# Altium integrated library NSC Interface.IntLib: 1288 symbols (part 41 of 45)
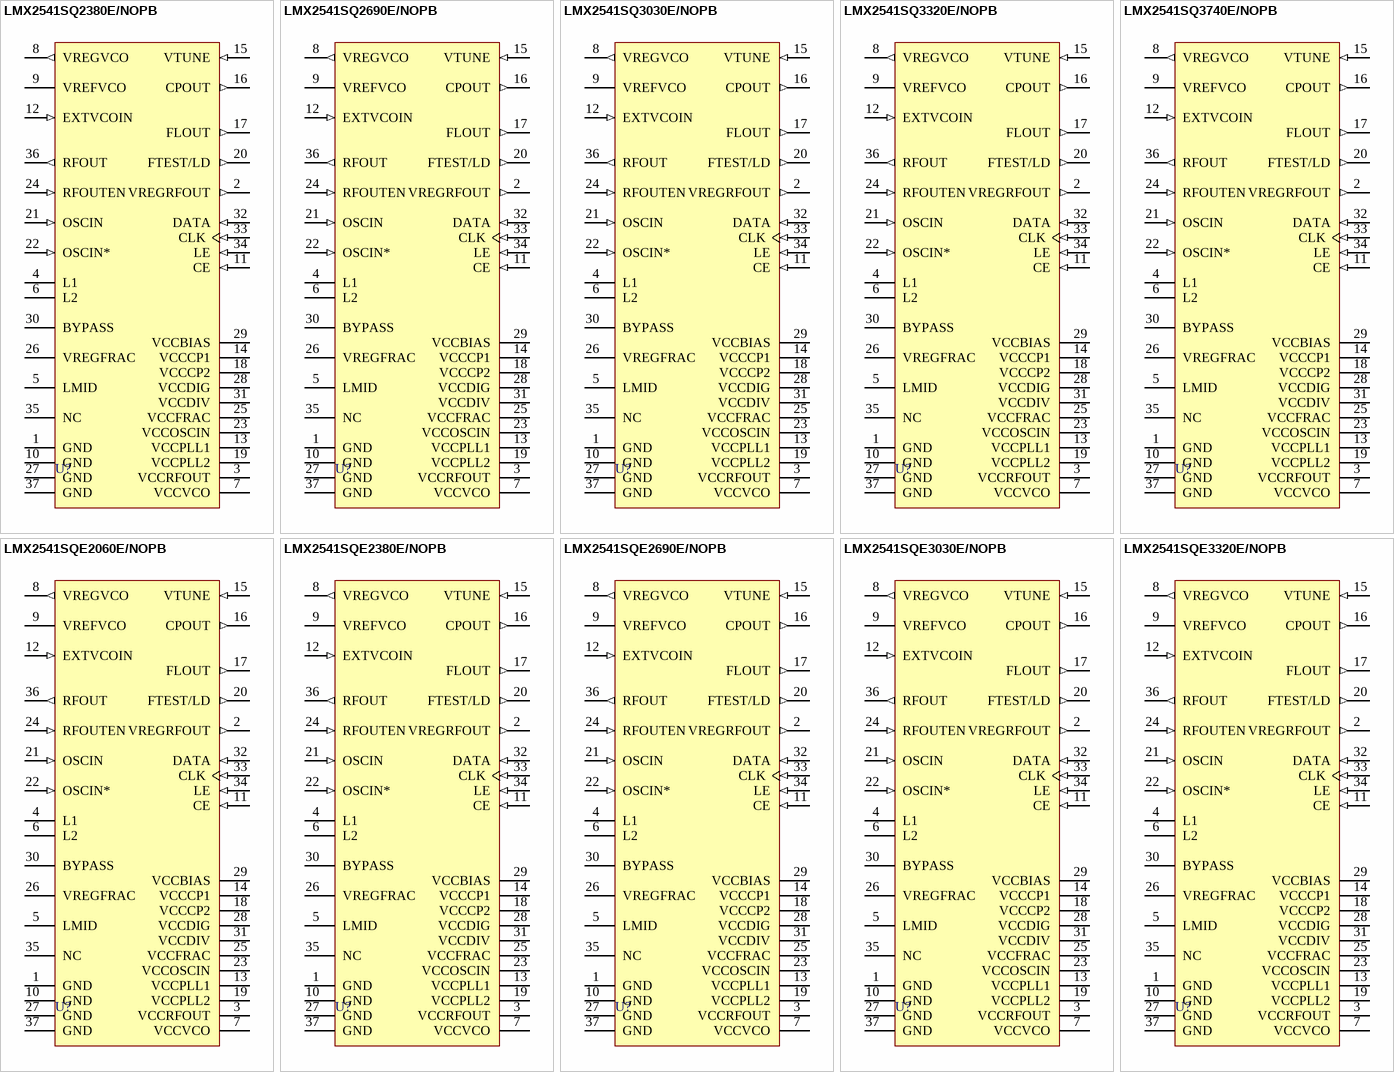
[diagram p152: symbols LMX2541SQ2380E/NOPB to LMX2541SQE3320E/NOPB]

## LMX2541SQ3320E/NOPB
designator U?
Ultra-Low Noise PLLatinum Frequency Synthesizer with Integrated VCO, 36-pin LLP, Pb-Free; PartNumber: LMX2541SQ3320E/NOPB; Manufacturer: National Semiconductor; PackageTopMarking: NS*UZXYTTE#*413320E; PowerWise: Y; CompType: Interface IC; Published: 1-Mar-2010; DatasheetVersion: Feb-2010; PackageVersion: revA, Jun-2003; PackageReference: SQA36A; Publisher: Altium Limited; PackageDescription: LLP, Plastic, Quad, 6 x 6 x 0.8mm Body, 36 Lead, 0.5mm Pitch, No Pullback; Supplier 1: Digi-Key; Supplier Part Number 1: LMX2541SQ3320E/NOPBTR-ND; Supplier 2: Digi-Key; Supplier Part Number 2: LMX2541SQ3320E/NOPBCT-ND; Supplier 3: Digi-Key; Supplier Part Number 3: LMX2541SQ3320E/NOPBDKR-ND; RoHS: Y; PinCount: 36; ComponentLink1Description: LMX2541 Datasheet; ComponentLink1URL: http://www.national.com/ds/LM/LMX2541.pdf; ComponentLink2Description: LMX2541 Web Page; ComponentLink2URL: http://www.national.com/pf/LM/LMX2541.html; ComponentLink3Description: SQA36A Package Page; ComponentLink3URL: http://www.national.com/packaging/folders/sqa36a.html
footprint SQA36A (QFN, 36-Leads, Body 6x6mm, Pitch 0.5mm, NSC Recommended)
pins: 1 GND (power), 2 VREGRFOUT (out), 3 VCCRFOUT (power), 4 L1, 5 LMID, 6 L2, 7 VCCVCO (power), 8 VREGVCO (out), 9 VREFVCO, 10 GND (power), 11 CE (in), 12 EXTVCOIN (in), 13 VCCPLL1, 14 VCCCP1, 15 VTUNE (in), 16 CPOUT (out), 17 FLOUT (out), 18 VCCCP2 (power), 19 VCCPLL2 (power), 20 FTEST/LD (out), 21 OSCIN (in), 22 OSCIN* (in), 23 VCCOSCIN (power), 24 RFOUTEN (in), 25 VCCFRAC (power), 26 VREGFRAC (power), 27 GND (power), 28 VCCDIG (power), 29 VCCBIAS (power), 30 BYPASS, 31 VCCDIV (power), 32 DATA (in), 33 CLK (in), 34 LE (in), 35 NC, 36 RFOUT (out), 37 GND (power)

## LMX2541SQ3740E/NOPB
designator U?
Ultra-Low Noise PLLatinum Frequency Synthesizer with Integrated VCO, 36-pin LLP, Pb-Free; PartNumber: LMX2541SQ3740E/NOPB; Manufacturer: National Semiconductor; PackageTopMarking: NS*UZXYTT*413740E; PowerWise: Y; CompType: Interface IC; Published: 1-Mar-2010; DatasheetVersion: Feb-2010; PackageVersion: revA, Jun-2003; PackageReference: SQA36A; Publisher: Altium Limited; PackageDescription: LLP, Plastic, Quad, 6 x 6 x 0.8mm Body, 36 Lead, 0.5mm Pitch, No Pullback; Supplier 1: Digi-Key; Supplier Part Number 1: LMX2541SQ3740E/NOPBTR-ND; Supplier 2: Digi-Key; Supplier Part Number 2: LMX2541SQ3740E/NOPBCT-ND; Supplier 3: Digi-Key; Supplier Part Number 3: LMX2541SQ3740E/NOPBDKR-ND; RoHS: Y; PinCount: 36; ComponentLink1Description: LMX2541 Datasheet; ComponentLink1URL: http://www.national.com/ds/LM/LMX2541.pdf; ComponentLink2Description: LMX2541 Web Page; ComponentLink2URL: http://www.national.com/pf/LM/LMX2541.html; ComponentLink3Description: SQA36A Package Page; ComponentLink3URL: http://www.national.com/packaging/folders/sqa36a.html
footprint SQA36A (QFN, 36-Leads, Body 6x6mm, Pitch 0.5mm, NSC Recommended)
pins: 1 GND (power), 2 VREGRFOUT (out), 3 VCCRFOUT (power), 4 L1, 5 LMID, 6 L2, 7 VCCVCO (power), 8 VREGVCO (out), 9 VREFVCO, 10 GND (power), 11 CE (in), 12 EXTVCOIN (in), 13 VCCPLL1, 14 VCCCP1, 15 VTUNE (in), 16 CPOUT (out), 17 FLOUT (out), 18 VCCCP2 (power), 19 VCCPLL2 (power), 20 FTEST/LD (out), 21 OSCIN (in), 22 OSCIN* (in), 23 VCCOSCIN (power), 24 RFOUTEN (in), 25 VCCFRAC (power), 26 VREGFRAC (power), 27 GND (power), 28 VCCDIG (power), 29 VCCBIAS (power), 30 BYPASS, 31 VCCDIV (power), 32 DATA (in), 33 CLK (in), 34 LE (in), 35 NC, 36 RFOUT (out), 37 GND (power)

## LMX2541SQE2060E/NOPB
designator U?
Ultra-Low Noise PLLatinum Frequency Synthesizer with Integrated VCO, 36-pin LLP, Pb-Free; PartNumber: LMX2541SQE2060E/NOPB; Manufacturer: National Semiconductor; PackageTopMarking: NS*UZXYTTE#*412060E; PowerWise: Y; CompType: Interface IC; Published: 1-Mar-2010; DatasheetVersion: Feb-2010; PackageVersion: revA, Jun-2003; PackageReference: SQA36A; Publisher: Altium Limited; PackageDescription: LLP, Plastic, Quad, 6 x 6 x 0.8mm Body, 36 Lead, 0.5mm Pitch, No Pullback; Supplier 1: Digi-Key; Supplier Part Number 1: LMX2541SQE2060ETR-ND; Supplier 2: Digi-Key; Supplier Part Number 2: LMX2541SQE2060ECT-ND; Supplier 3: Digi-Key; Supplier Part Number 3: LMX2541SQE2060EDKR-ND; RoHS: Y; PinCount: 36; ComponentLink1Description: LMX2541 Datasheet; ComponentLink1URL: http://www.national.com/ds/LM/LMX2541.pdf; ComponentLink2Description: LMX2541 Web Page; ComponentLink2URL: http://www.national.com/pf/LM/LMX2541.html; ComponentLink3Description: SQA36A Package Page; ComponentLink3URL: http://www.national.com/packaging/folders/sqa36a.html
footprint SQA36A (QFN, 36-Leads, Body 6x6mm, Pitch 0.5mm, NSC Recommended)
pins: 1 GND (power), 2 VREGRFOUT (out), 3 VCCRFOUT (power), 4 L1, 5 LMID, 6 L2, 7 VCCVCO (power), 8 VREGVCO (out), 9 VREFVCO, 10 GND (power), 11 CE (in), 12 EXTVCOIN (in), 13 VCCPLL1, 14 VCCCP1, 15 VTUNE (in), 16 CPOUT (out), 17 FLOUT (out), 18 VCCCP2 (power), 19 VCCPLL2 (power), 20 FTEST/LD (out), 21 OSCIN (in), 22 OSCIN* (in), 23 VCCOSCIN (power), 24 RFOUTEN (in), 25 VCCFRAC (power), 26 VREGFRAC (power), 27 GND (power), 28 VCCDIG (power), 29 VCCBIAS (power), 30 BYPASS, 31 VCCDIV (power), 32 DATA (in), 33 CLK (in), 34 LE (in), 35 NC, 36 RFOUT (out), 37 GND (power)

## LMX2541SQE2380E/NOPB
designator U?
Ultra-Low Noise PLLatinum Frequency Synthesizer with Integrated VCO, 36-pin LLP, Pb-Free; PartNumber: LMX2541SQE2380E/NOPB; Manufacturer: National Semiconductor; PackageTopMarking: NS*UZXYTTE#*412380E; PowerWise: Y; CompType: Interface IC; Published: 1-Mar-2010; DatasheetVersion: Feb-2010; PackageVersion: revA, Jun-2003; PackageReference: SQA36A; Publisher: Altium Limited; PackageDescription: LLP, Plastic, Quad, 6 x 6 x 0.8mm Body, 36 Lead, 0.5mm Pitch, No Pullback; Supplier 1: Digi-Key; Supplier Part Number 1: LMX2541SQE2380ETR-ND; Supplier 2: Digi-Key; Supplier Part Number 2: LMX2541SQE2380ECT-ND; Supplier 3: Digi-Key; Supplier Part Number 3: LMX2541SQE2380EDKR-ND; RoHS: Y; PinCount: 36; ComponentLink1Description: LMX2541 Datasheet; ComponentLink1URL: http://www.national.com/ds/LM/LMX2541.pdf; ComponentLink2Description: LMX2541 Web Page; ComponentLink2URL: http://www.national.com/pf/LM/LMX2541.html; ComponentLink3Description: SQA36A Package Page; ComponentLink3URL: http://www.national.com/packaging/folders/sqa36a.html
footprint SQA36A (QFN, 36-Leads, Body 6x6mm, Pitch 0.5mm, NSC Recommended)
pins: 1 GND (power), 2 VREGRFOUT (out), 3 VCCRFOUT (power), 4 L1, 5 LMID, 6 L2, 7 VCCVCO (power), 8 VREGVCO (out), 9 VREFVCO, 10 GND (power), 11 CE (in), 12 EXTVCOIN (in), 13 VCCPLL1, 14 VCCCP1, 15 VTUNE (in), 16 CPOUT (out), 17 FLOUT (out), 18 VCCCP2 (power), 19 VCCPLL2 (power), 20 FTEST/LD (out), 21 OSCIN (in), 22 OSCIN* (in), 23 VCCOSCIN (power), 24 RFOUTEN (in), 25 VCCFRAC (power), 26 VREGFRAC (power), 27 GND (power), 28 VCCDIG (power), 29 VCCBIAS (power), 30 BYPASS, 31 VCCDIV (power), 32 DATA (in), 33 CLK (in), 34 LE (in), 35 NC, 36 RFOUT (out), 37 GND (power)

## LMX2541SQE2690E/NOPB
designator U?
Ultra-Low Noise PLLatinum Frequency Synthesizer with Integrated VCO, 36-pin LLP, Pb-Free; PartNumber: LMX2541SQE2690E/NOPB; Manufacturer: National Semiconductor; PackageTopMarking: NS*UZXYTTE#*412690E; PowerWise: Y; CompType: Interface IC; Published: 1-Mar-2010; DatasheetVersion: Feb-2010; PackageVersion: revA, Jun-2003; PackageReference: SQA36A; Publisher: Altium Limited; PackageDescription: LLP, Plastic, Quad, 6 x 6 x 0.8mm Body, 36 Lead, 0.5mm Pitch, No Pullback; Supplier 1: Digi-Key; Supplier Part Number 1: LMX2541SQE2690ETR-ND; Supplier 2: Digi-Key; Supplier Part Number 2: LMX2541SQE2690ECT-ND; Supplier 3: Digi-Key; Supplier Part Number 3: LMX2541SQE2690EDKR-ND; RoHS: Y; PinCount: 36; ComponentLink1Description: LMX2541 Datasheet; ComponentLink1URL: http://www.national.com/ds/LM/LMX2541.pdf; ComponentLink2Description: LMX2541 Web Page; ComponentLink2URL: http://www.national.com/pf/LM/LMX2541.html; ComponentLink3Description: SQA36A Package Page; ComponentLink3URL: http://www.national.com/packaging/folders/sqa36a.html
footprint SQA36A (QFN, 36-Leads, Body 6x6mm, Pitch 0.5mm, NSC Recommended)
pins: 1 GND (power), 2 VREGRFOUT (out), 3 VCCRFOUT (power), 4 L1, 5 LMID, 6 L2, 7 VCCVCO (power), 8 VREGVCO (out), 9 VREFVCO, 10 GND (power), 11 CE (in), 12 EXTVCOIN (in), 13 VCCPLL1, 14 VCCCP1, 15 VTUNE (in), 16 CPOUT (out), 17 FLOUT (out), 18 VCCCP2 (power), 19 VCCPLL2 (power), 20 FTEST/LD (out), 21 OSCIN (in), 22 OSCIN* (in), 23 VCCOSCIN (power), 24 RFOUTEN (in), 25 VCCFRAC (power), 26 VREGFRAC (power), 27 GND (power), 28 VCCDIG (power), 29 VCCBIAS (power), 30 BYPASS, 31 VCCDIV (power), 32 DATA (in), 33 CLK (in), 34 LE (in), 35 NC, 36 RFOUT (out), 37 GND (power)

## LMX2541SQE3030E/NOPB
designator U?
Ultra-Low Noise PLLatinum Frequency Synthesizer with Integrated VCO, 36-pin LLP, Pb-Free; PartNumber: LMX2541SQE3030E/NOPB; Manufacturer: National Semiconductor; PackageTopMarking: NS*UZXYTTE#*413030E; PowerWise: Y; CompType: Interface IC; Published: 1-Mar-2010; DatasheetVersion: Feb-2010; PackageVersion: revA, Jun-2003; PackageReference: SQA36A; Publisher: Altium Limited; PackageDescription: LLP, Plastic, Quad, 6 x 6 x 0.8mm Body, 36 Lead, 0.5mm Pitch, No Pullback; Supplier 1: Digi-Key; Supplier Part Number 1: LMX2541SQE3030ETR-ND; Supplier 2: Digi-Key; Supplier Part Number 2: LMX2541SQE3030ECT-ND; Supplier 3: Digi-Key; Supplier Part Number 3: LMX2541SQE3030EDKR-ND; RoHS: Y; PinCount: 36; ComponentLink1Description: LMX2541 Datasheet; ComponentLink1URL: http://www.national.com/ds/LM/LMX2541.pdf; ComponentLink2Description: LMX2541 Web Page; ComponentLink2URL: http://www.national.com/pf/LM/LMX2541.html; ComponentLink3Description: SQA36A Package Page; ComponentLink3URL: http://www.national.com/packaging/folders/sqa36a.html
footprint SQA36A (QFN, 36-Leads, Body 6x6mm, Pitch 0.5mm, NSC Recommended)
pins: 1 GND (power), 2 VREGRFOUT (out), 3 VCCRFOUT (power), 4 L1, 5 LMID, 6 L2, 7 VCCVCO (power), 8 VREGVCO (out), 9 VREFVCO, 10 GND (power), 11 CE (in), 12 EXTVCOIN (in), 13 VCCPLL1, 14 VCCCP1, 15 VTUNE (in), 16 CPOUT (out), 17 FLOUT (out), 18 VCCCP2 (power), 19 VCCPLL2 (power), 20 FTEST/LD (out), 21 OSCIN (in), 22 OSCIN* (in), 23 VCCOSCIN (power), 24 RFOUTEN (in), 25 VCCFRAC (power), 26 VREGFRAC (power), 27 GND (power), 28 VCCDIG (power), 29 VCCBIAS (power), 30 BYPASS, 31 VCCDIV (power), 32 DATA (in), 33 CLK (in), 34 LE (in), 35 NC, 36 RFOUT (out), 37 GND (power)

## LMX2541SQE3320E/NOPB
designator U?
Ultra-Low Noise PLLatinum Frequency Synthesizer with Integrated VCO, 36-pin LLP, Pb-Free; PartNumber: LMX2541SQE3320E/NOPB; Manufacturer: National Semiconductor; PackageTopMarking: NS*UZXYTTE#*413320E; PowerWise: Y; CompType: Interface IC; Published: 1-Mar-2010; DatasheetVersion: Feb-2010; PackageVersion: revA, Jun-2003; PackageReference: SQA36A; Publisher: Altium Limited; PackageDescription: LLP, Plastic, Quad, 6 x 6 x 0.8mm Body, 36 Lead, 0.5mm Pitch, No Pullback; Supplier 1: Digi-Key; Supplier Part Number 1: LMX2541SQE3320ETR-ND; Supplier 2: Digi-Key; Supplier Part Number 2: LMX2541SQE3320ECT-ND; Supplier 3: Digi-Key; Supplier Part Number 3: LMX2541SQE3320EDKR-ND; RoHS: Y; PinCount: 36; ComponentLink1Description: LMX2541 Datasheet; ComponentLink1URL: http://www.national.com/ds/LM/LMX2541.pdf; ComponentLink2Description: LMX2541 Web Page; ComponentLink2URL: http://www.national.com/pf/LM/LMX2541.html; ComponentLink3Description: SQA36A Package Page; ComponentLink3URL: http://www.national.com/packaging/folders/sqa36a.html
footprint SQA36A (QFN, 36-Leads, Body 6x6mm, Pitch 0.5mm, NSC Recommended)
pins: 1 GND (power), 2 VREGRFOUT (out), 3 VCCRFOUT (power), 4 L1, 5 LMID, 6 L2, 7 VCCVCO (power), 8 VREGVCO (out), 9 VREFVCO, 10 GND (power), 11 CE (in), 12 EXTVCOIN (in), 13 VCCPLL1, 14 VCCCP1, 15 VTUNE (in), 16 CPOUT (out), 17 FLOUT (out), 18 VCCCP2 (power), 19 VCCPLL2 (power), 20 FTEST/LD (out), 21 OSCIN (in), 22 OSCIN* (in), 23 VCCOSCIN (power), 24 RFOUTEN (in), 25 VCCFRAC (power), 26 VREGFRAC (power), 27 GND (power), 28 VCCDIG (power), 29 VCCBIAS (power), 30 BYPASS, 31 VCCDIV (power), 32 DATA (in), 33 CLK (in), 34 LE (in), 35 NC, 36 RFOUT (out), 37 GND (power)

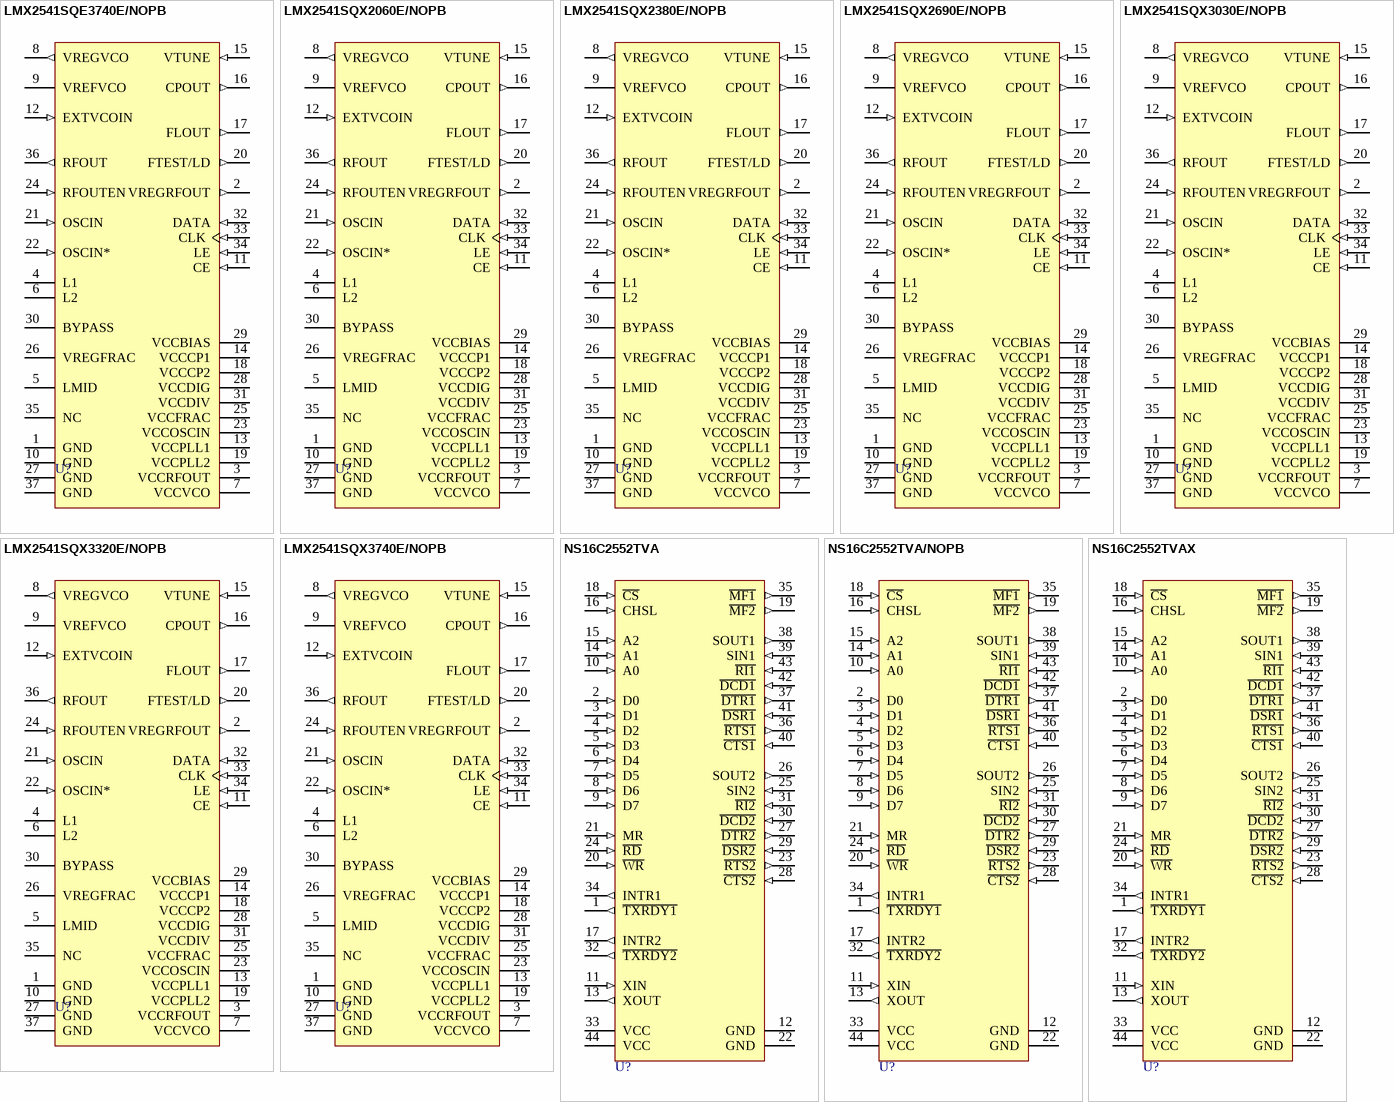
[diagram p99: symbols LMX2541SQE3740E/NOPB to NS16C2552TVAX]

## LMX2541SQE3740E/NOPB
designator U?
Ultra-Low Noise PLLatinum Frequency Synthesizer with Integrated VCO, 36-pin LLP, Pb-Free; PartNumber: LMX2541SQE3740E/NOPB; Manufacturer: National Semiconductor; PackageTopMarking: NS*UZXYTTE#*413740E; PowerWise: Y; CompType: Interface IC; Published: 1-Mar-2010; DatasheetVersion: Feb-2010; PackageVersion: revA, Jun-2003; PackageReference: SQA36A; Publisher: Altium Limited; PackageDescription: LLP, Plastic, Quad, 6 x 6 x 0.8mm Body, 36 Lead, 0.5mm Pitch, No Pullback; Supplier 1: Digi-Key; Supplier Part Number 1: LMX2541SQE3740ETR-ND; Supplier 2: Digi-Key; Supplier Part Number 2: LMX2541SQE3740ECT-ND; Supplier 3: Digi-Key; Supplier Part Number 3: LMX2541SQE3740EDKR-ND; RoHS: Y; PinCount: 36; ComponentLink1Description: LMX2541 Datasheet; ComponentLink1URL: http://www.national.com/ds/LM/LMX2541.pdf; ComponentLink2Description: LMX2541 Web Page; ComponentLink2URL: http://www.national.com/pf/LM/LMX2541.html; ComponentLink3Description: SQA36A Package Page; ComponentLink3URL: http://www.national.com/packaging/folders/sqa36a.html
footprint SQA36A (QFN, 36-Leads, Body 6x6mm, Pitch 0.5mm, NSC Recommended)
pins: 1 GND (power), 2 VREGRFOUT (out), 3 VCCRFOUT (power), 4 L1, 5 LMID, 6 L2, 7 VCCVCO (power), 8 VREGVCO (out), 9 VREFVCO, 10 GND (power), 11 CE (in), 12 EXTVCOIN (in), 13 VCCPLL1, 14 VCCCP1, 15 VTUNE (in), 16 CPOUT (out), 17 FLOUT (out), 18 VCCCP2 (power), 19 VCCPLL2 (power), 20 FTEST/LD (out), 21 OSCIN (in), 22 OSCIN* (in), 23 VCCOSCIN (power), 24 RFOUTEN (in), 25 VCCFRAC (power), 26 VREGFRAC (power), 27 GND (power), 28 VCCDIG (power), 29 VCCBIAS (power), 30 BYPASS, 31 VCCDIV (power), 32 DATA (in), 33 CLK (in), 34 LE (in), 35 NC, 36 RFOUT (out), 37 GND (power)

## LMX2541SQX2060E/NOPB
designator U?
Ultra-Low Noise PLLatinum Frequency Synthesizer with Integrated VCO, 36-pin LLP, Pb-Free; PartNumber: LMX2541SQX2060E/NOPB; Manufacturer: National Semiconductor; PackageTopMarking: NS*UZXYTTE#*412060E; PowerWise: Y; CompType: Interface IC; Published: 1-Mar-2010; DatasheetVersion: Feb-2010; PackageVersion: revA, Jun-2003; PackageReference: SQA36A; Publisher: Altium Limited; PackageDescription: LLP, Plastic, Quad, 6 x 6 x 0.8mm Body, 36 Lead, 0.5mm Pitch, No Pullback; Supplier 1: Digi-Key; Supplier Part Number 1: LMX2541SQX2060E-ND; RoHS: Y; PinCount: 36; ComponentLink1Description: LMX2541 Datasheet; ComponentLink1URL: http://www.national.com/ds/LM/LMX2541.pdf; ComponentLink2Description: LMX2541 Web Page; ComponentLink2URL: http://www.national.com/pf/LM/LMX2541.html; ComponentLink3Description: SQA36A Package Page; ComponentLink3URL: http://www.national.com/packaging/folders/sqa36a.html
footprint SQA36A (QFN, 36-Leads, Body 6x6mm, Pitch 0.5mm, NSC Recommended)
pins: 1 GND (power), 2 VREGRFOUT (out), 3 VCCRFOUT (power), 4 L1, 5 LMID, 6 L2, 7 VCCVCO (power), 8 VREGVCO (out), 9 VREFVCO, 10 GND (power), 11 CE (in), 12 EXTVCOIN (in), 13 VCCPLL1, 14 VCCCP1, 15 VTUNE (in), 16 CPOUT (out), 17 FLOUT (out), 18 VCCCP2 (power), 19 VCCPLL2 (power), 20 FTEST/LD (out), 21 OSCIN (in), 22 OSCIN* (in), 23 VCCOSCIN (power), 24 RFOUTEN (in), 25 VCCFRAC (power), 26 VREGFRAC (power), 27 GND (power), 28 VCCDIG (power), 29 VCCBIAS (power), 30 BYPASS, 31 VCCDIV (power), 32 DATA (in), 33 CLK (in), 34 LE (in), 35 NC, 36 RFOUT (out), 37 GND (power)

## LMX2541SQX2380E/NOPB
designator U?
Ultra-Low Noise PLLatinum Frequency Synthesizer with Integrated VCO, 36-pin LLP, Pb-Free; PartNumber: LMX2541SQX2380E/NOPB; Manufacturer: National Semiconductor; PackageTopMarking: NS*UZXYTTE#*412380E; PowerWise: Y; CompType: Interface IC; Published: 1-Mar-2010; DatasheetVersion: Feb-2010; PackageVersion: revA, Jun-2003; PackageReference: SQA36A; Publisher: Altium Limited; PackageDescription: LLP, Plastic, Quad, 6 x 6 x 0.8mm Body, 36 Lead, 0.5mm Pitch, No Pullback; Supplier 1: Digi-Key; Supplier Part Number 1: LMX2541SQX2380E-ND; RoHS: Y; PinCount: 36; ComponentLink1Description: LMX2541 Datasheet; ComponentLink1URL: http://www.national.com/ds/LM/LMX2541.pdf; ComponentLink2Description: LMX2541 Web Page; ComponentLink2URL: http://www.national.com/pf/LM/LMX2541.html; ComponentLink3Description: SQA36A Package Page; ComponentLink3URL: http://www.national.com/packaging/folders/sqa36a.html
footprint SQA36A (QFN, 36-Leads, Body 6x6mm, Pitch 0.5mm, NSC Recommended)
pins: 1 GND (power), 2 VREGRFOUT (out), 3 VCCRFOUT (power), 4 L1, 5 LMID, 6 L2, 7 VCCVCO (power), 8 VREGVCO (out), 9 VREFVCO, 10 GND (power), 11 CE (in), 12 EXTVCOIN (in), 13 VCCPLL1, 14 VCCCP1, 15 VTUNE (in), 16 CPOUT (out), 17 FLOUT (out), 18 VCCCP2 (power), 19 VCCPLL2 (power), 20 FTEST/LD (out), 21 OSCIN (in), 22 OSCIN* (in), 23 VCCOSCIN (power), 24 RFOUTEN (in), 25 VCCFRAC (power), 26 VREGFRAC (power), 27 GND (power), 28 VCCDIG (power), 29 VCCBIAS (power), 30 BYPASS, 31 VCCDIV (power), 32 DATA (in), 33 CLK (in), 34 LE (in), 35 NC, 36 RFOUT (out), 37 GND (power)

## LMX2541SQX2690E/NOPB
designator U?
Ultra-Low Noise PLLatinum Frequency Synthesizer with Integrated VCO, 36-pin LLP, Pb-Free; PartNumber: LMX2541SQX2690E/NOPB; Manufacturer: National Semiconductor; PackageTopMarking: NS*UZXYTTE#*412690E; PowerWise: Y; CompType: Interface IC; Published: 1-Mar-2010; DatasheetVersion: Feb-2010; PackageVersion: revA, Jun-2003; PackageReference: SQA36A; Publisher: Altium Limited; PackageDescription: LLP, Plastic, Quad, 6 x 6 x 0.8mm Body, 36 Lead, 0.5mm Pitch, No Pullback; Supplier 1: Digi-Key; Supplier Part Number 1: LMX2541SQX2690E-ND; RoHS: Y; PinCount: 36; ComponentLink1Description: LMX2541 Datasheet; ComponentLink1URL: http://www.national.com/ds/LM/LMX2541.pdf; ComponentLink2Description: LMX2541 Web Page; ComponentLink2URL: http://www.national.com/pf/LM/LMX2541.html; ComponentLink3Description: SQA36A Package Page; ComponentLink3URL: http://www.national.com/packaging/folders/sqa36a.html
footprint SQA36A (QFN, 36-Leads, Body 6x6mm, Pitch 0.5mm, NSC Recommended)
pins: 1 GND (power), 2 VREGRFOUT (out), 3 VCCRFOUT (power), 4 L1, 5 LMID, 6 L2, 7 VCCVCO (power), 8 VREGVCO (out), 9 VREFVCO, 10 GND (power), 11 CE (in), 12 EXTVCOIN (in), 13 VCCPLL1, 14 VCCCP1, 15 VTUNE (in), 16 CPOUT (out), 17 FLOUT (out), 18 VCCCP2 (power), 19 VCCPLL2 (power), 20 FTEST/LD (out), 21 OSCIN (in), 22 OSCIN* (in), 23 VCCOSCIN (power), 24 RFOUTEN (in), 25 VCCFRAC (power), 26 VREGFRAC (power), 27 GND (power), 28 VCCDIG (power), 29 VCCBIAS (power), 30 BYPASS, 31 VCCDIV (power), 32 DATA (in), 33 CLK (in), 34 LE (in), 35 NC, 36 RFOUT (out), 37 GND (power)

## LMX2541SQX3030E/NOPB
designator U?
Ultra-Low Noise PLLatinum Frequency Synthesizer with Integrated VCO, 36-pin LLP, Pb-Free; PartNumber: LMX2541SQX3030E/NOPB; Manufacturer: National Semiconductor; PackageTopMarking: NS*UZXYTTE#*413030E; PowerWise: Y; CompType: Interface IC; Published: 1-Mar-2010; DatasheetVersion: Feb-2010; PackageVersion: revA, Jun-2003; PackageReference: SQA36A; Publisher: Altium Limited; PackageDescription: LLP, Plastic, Quad, 6 x 6 x 0.8mm Body, 36 Lead, 0.5mm Pitch, No Pullback; Supplier 1: Digi-Key; Supplier Part Number 1: LMX2541SQX3030E-ND; RoHS: Y; PinCount: 36; ComponentLink1Description: LMX2541 Datasheet; ComponentLink1URL: http://www.national.com/ds/LM/LMX2541.pdf; ComponentLink2Description: LMX2541 Web Page; ComponentLink2URL: http://www.national.com/pf/LM/LMX2541.html; ComponentLink3Description: SQA36A Package Page; ComponentLink3URL: http://www.national.com/packaging/folders/sqa36a.html
footprint SQA36A (QFN, 36-Leads, Body 6x6mm, Pitch 0.5mm, NSC Recommended)
pins: 1 GND (power), 2 VREGRFOUT (out), 3 VCCRFOUT (power), 4 L1, 5 LMID, 6 L2, 7 VCCVCO (power), 8 VREGVCO (out), 9 VREFVCO, 10 GND (power), 11 CE (in), 12 EXTVCOIN (in), 13 VCCPLL1, 14 VCCCP1, 15 VTUNE (in), 16 CPOUT (out), 17 FLOUT (out), 18 VCCCP2 (power), 19 VCCPLL2 (power), 20 FTEST/LD (out), 21 OSCIN (in), 22 OSCIN* (in), 23 VCCOSCIN (power), 24 RFOUTEN (in), 25 VCCFRAC (power), 26 VREGFRAC (power), 27 GND (power), 28 VCCDIG (power), 29 VCCBIAS (power), 30 BYPASS, 31 VCCDIV (power), 32 DATA (in), 33 CLK (in), 34 LE (in), 35 NC, 36 RFOUT (out), 37 GND (power)

## LMX2541SQX3320E/NOPB
designator U?
Ultra-Low Noise PLLatinum Frequency Synthesizer with Integrated VCO, 36-pin LLP, Pb-Free; PartNumber: LMX2541SQX3320E/NOPB; Manufacturer: National Semiconductor; PackageTopMarking: NS*UZXYTTE#*413320E; PowerWise: Y; CompType: Interface IC; Published: 1-Mar-2010; DatasheetVersion: Feb-2010; PackageVersion: revA, Jun-2003; PackageReference: SQA36A; Publisher: Altium Limited; PackageDescription: LLP, Plastic, Quad, 6 x 6 x 0.8mm Body, 36 Lead, 0.5mm Pitch, No Pullback; Supplier 1: Digi-Key; Supplier Part Number 1: LMX2541SQX3320E-ND; RoHS: Y; PinCount: 36; ComponentLink1Description: LMX2541 Datasheet; ComponentLink1URL: http://www.national.com/ds/LM/LMX2541.pdf; ComponentLink2Description: LMX2541 Web Page; ComponentLink2URL: http://www.national.com/pf/LM/LMX2541.html; ComponentLink3Description: SQA36A Package Page; ComponentLink3URL: http://www.national.com/packaging/folders/sqa36a.html
footprint SQA36A (QFN, 36-Leads, Body 6x6mm, Pitch 0.5mm, NSC Recommended)
pins: 1 GND (power), 2 VREGRFOUT (out), 3 VCCRFOUT (power), 4 L1, 5 LMID, 6 L2, 7 VCCVCO (power), 8 VREGVCO (out), 9 VREFVCO, 10 GND (power), 11 CE (in), 12 EXTVCOIN (in), 13 VCCPLL1, 14 VCCCP1, 15 VTUNE (in), 16 CPOUT (out), 17 FLOUT (out), 18 VCCCP2 (power), 19 VCCPLL2 (power), 20 FTEST/LD (out), 21 OSCIN (in), 22 OSCIN* (in), 23 VCCOSCIN (power), 24 RFOUTEN (in), 25 VCCFRAC (power), 26 VREGFRAC (power), 27 GND (power), 28 VCCDIG (power), 29 VCCBIAS (power), 30 BYPASS, 31 VCCDIV (power), 32 DATA (in), 33 CLK (in), 34 LE (in), 35 NC, 36 RFOUT (out), 37 GND (power)

## LMX2541SQX3740E/NOPB
designator U?
Ultra-Low Noise PLLatinum Frequency Synthesizer with Integrated VCO, 36-pin LLP, Pb-Free; PartNumber: LMX2541SQX3740E/NOPB; Manufacturer: National Semiconductor; PackageTopMarking: NS*UZXYTTE#*413740E; PowerWise: Y; CompType: Interface IC; Published: 1-Mar-2010; DatasheetVersion: Feb-2010; PackageVersion: revA, Jun-2003; PackageReference: SQA36A; Publisher: Altium Limited; PackageDescription: LLP, Plastic, Quad, 6 x 6 x 0.8mm Body, 36 Lead, 0.5mm Pitch, No Pullback; Supplier 1: Digi-Key; Supplier Part Number 1: LMX2541SQX3740E-ND; RoHS: Y; PinCount: 36; ComponentLink1Description: LMX2541 Datasheet; ComponentLink1URL: http://www.national.com/ds/LM/LMX2541.pdf; ComponentLink2Description: LMX2541 Web Page; ComponentLink2URL: http://www.national.com/pf/LM/LMX2541.html; ComponentLink3Description: SQA36A Package Page; ComponentLink3URL: http://www.national.com/packaging/folders/sqa36a.html
footprint SQA36A (QFN, 36-Leads, Body 6x6mm, Pitch 0.5mm, NSC Recommended)
pins: 1 GND (power), 2 VREGRFOUT (out), 3 VCCRFOUT (power), 4 L1, 5 LMID, 6 L2, 7 VCCVCO (power), 8 VREGVCO (out), 9 VREFVCO, 10 GND (power), 11 CE (in), 12 EXTVCOIN (in), 13 VCCPLL1, 14 VCCCP1, 15 VTUNE (in), 16 CPOUT (out), 17 FLOUT (out), 18 VCCCP2 (power), 19 VCCPLL2 (power), 20 FTEST/LD (out), 21 OSCIN (in), 22 OSCIN* (in), 23 VCCOSCIN (power), 24 RFOUTEN (in), 25 VCCFRAC (power), 26 VREGFRAC (power), 27 GND (power), 28 VCCDIG (power), 29 VCCBIAS (power), 30 BYPASS, 31 VCCDIV (power), 32 DATA (in), 33 CLK (in), 34 LE (in), 35 NC, 36 RFOUT (out), 37 GND (power)

## NS16C2552TVA
designator U?
Dual UART with 16-byte/64-byte FIFO's and up to 5 Mbit/s Data Rate, 44-pin PLCC; PartNumber: NS16C2552TVA; Manufacturer: National Semiconductor; PackageTopMarking: NSUZXYYTTE#*NS16C2552TVA; PowerWise: N; CompType: Interface IC; Published: 4-Dec-2008; DatasheetVersion: Jun-2009; PackageVersion: revK, Dec-1993; PackageReference: V44A; Publisher: Altium Limited; PackageDescription: Plastic Chip Carrier, Sq, .050in Pitch, 44 Lead; RoHS: Y; PinCount: 44; Code_IPC: PLCC-44; ComponentLink1Description: NS16C2552 Datasheet; ComponentLink1URL: http://www.national.com/ds/NS/NS16C2552.pdf; ComponentLink2Description: NS16C2552 Web Page; ComponentLink2URL: http://www.national.com/pf/NS/NS16C2552.html; ComponentLink3Description: V44A Package Page; ComponentLink3URL: http://www.national.com/packaging/folders/v44a.html
footprint V44A_N (Leaded Chip Carrier, 44-Leads, Body 16.6x16.6mm, Pitch 1.27mm, IPC Medium Density)
footprint V44A_L (Leaded Chip Carrier, 44-Leads, Body 16.6x16.6mm, Pitch 1.27mm, IPC High Density)
footprint V44A_M (Leaded Chip Carrier, 44-Leads, Body 16.6x16.6mm, Pitch 1.27mm, IPC Low Density)
pins: 1 ~{TXRDY1} (out), 2 D0 (in), 3 D1 (in), 4 D2 (in), 5 D3 (in), 6 D4 (in), 7 D5 (in), 8 D6 (in), 9 D7 (in), 10 A0 (in), 11 XIN (in), 12 GND (power), 13 XOUT (out), 14 A1 (in), 15 A2 (in), 16 CHSL (in), 17 INTR2 (out), 18 ~{CS} (in), 19 ~{MF2} (out), 20 ~{WR} (in), 21 MR (in), 22 GND (power), 23 ~{RTS2} (out), 24 ~{RD} (in), 25 SIN2 (in), 26 SOUT2 (out), 27 ~{DTR2} (out), 28 ~{CTS2} (in), 29 ~{DSR2} (in), 30 ~{DCD2} (in), 31 ~{RI2} (in), 32 ~{TXRDY2} (out), 33 VCC (power), 34 INTR1 (out), 35 ~{MF1} (out), 36 ~{RTS1} (out), 37 ~{DTR1} (out), 38 SOUT1 (out), 39 SIN1 (in), 40 ~{CTS1} (in), 41 ~{DSR1} (in), 42 ~{DCD1} (in), 43 ~{RI1} (in), 44 VCC (power)

## NS16C2552TVA/NOPB
designator U?
Dual UART with 16-byte FIFO and up to 5 Mbit/s Data Rate, 44-pin PLCC, Pb-Free; PartNumber: NS16C2552TVA/NOPB; Manufacturer: National Semiconductor; PackageTopMarking: NSUZXYYTTE#*NS16C2552TVA; PowerWise: N; CompType: Interface IC; Published: 1-Mar-2010; DatasheetVersion: Jun-2009; PackageVersion: revK, Dec-1993; PackageReference: V44A; Publisher: Altium Limited; PackageDescription: Plastic Chip Carrier, Sq, .050in Pitch, 44 Lead; Supplier 1: Digi-Key; Supplier Part Number 1: NS16C2552TVA-ND; RoHS: Y; PinCount: 44; Code_IPC: PLCC-44; ComponentLink1Description: NS16C2552 Datasheet; ComponentLink1URL: http://www.national.com/ds/NS/NS16C2552.pdf; ComponentLink2Description: NS16C2552 Web Page; ComponentLink2URL: http://www.national.com/pf/NS/NS16C2552.html; ComponentLink3Description: V44A Package Page; ComponentLink3URL: http://www.national.com/packaging/folders/v44a.html
footprint V44A_N (Leaded Chip Carrier, 44-Leads, Body 16.6x16.6mm, Pitch 1.27mm, IPC Medium Density)
footprint V44A_L (Leaded Chip Carrier, 44-Leads, Body 16.6x16.6mm, Pitch 1.27mm, IPC High Density)
footprint V44A_M (Leaded Chip Carrier, 44-Leads, Body 16.6x16.6mm, Pitch 1.27mm, IPC Low Density)
pins: 1 ~{TXRDY1} (out), 2 D0 (in), 3 D1 (in), 4 D2 (in), 5 D3 (in), 6 D4 (in), 7 D5 (in), 8 D6 (in), 9 D7 (in), 10 A0 (in), 11 XIN (in), 12 GND (power), 13 XOUT (out), 14 A1 (in), 15 A2 (in), 16 CHSL (in), 17 INTR2 (out), 18 ~{CS} (in), 19 ~{MF2} (out), 20 ~{WR} (in), 21 MR (in), 22 GND (power), 23 ~{RTS2} (out), 24 ~{RD} (in), 25 SIN2 (in), 26 SOUT2 (out), 27 ~{DTR2} (out), 28 ~{CTS2} (in), 29 ~{DSR2} (in), 30 ~{DCD2} (in), 31 ~{RI2} (in), 32 ~{TXRDY2} (out), 33 VCC (power), 34 INTR1 (out), 35 ~{MF1} (out), 36 ~{RTS1} (out), 37 ~{DTR1} (out), 38 SOUT1 (out), 39 SIN1 (in), 40 ~{CTS1} (in), 41 ~{DSR1} (in), 42 ~{DCD1} (in), 43 ~{RI1} (in), 44 VCC (power)

## NS16C2552TVAX
designator U?
Dual UART with 16-byte/64-byte FIFO's and up to 5 Mbit/s Data Rate, 44-pin PLCC; PartNumber: NS16C2552TVAX; Manufacturer: National Semiconductor; PackageTopMarking: NSUZXYYTTE#*NS16C2552TVA*BBBBB; PowerWise: N; CompType: Interface IC; Published: 4-Dec-2008; DatasheetVersion: Jun-2009; PackageVersion: revK, Dec-1993; PackageReference: V44A; Publisher: Altium Limited; PackageDescription: Plastic Chip Carrier, Sq, .050in Pitch, 44 Lead; RoHS: Y; PinCount: 44; Code_IPC: PLCC-44; ComponentLink1Description: NS16C2552 Datasheet; ComponentLink1URL: http://www.national.com/ds/NS/NS16C2552.pdf; ComponentLink2Description: NS16C2552 Web Page; ComponentLink2URL: http://www.national.com/pf/NS/NS16C2552.html; ComponentLink3Description: V44A Package Page; ComponentLink3URL: http://www.national.com/packaging/folders/v44a.html
footprint V44A_N (Leaded Chip Carrier, 44-Leads, Body 16.6x16.6mm, Pitch 1.27mm, IPC Medium Density)
footprint V44A_L (Leaded Chip Carrier, 44-Leads, Body 16.6x16.6mm, Pitch 1.27mm, IPC High Density)
footprint V44A_M (Leaded Chip Carrier, 44-Leads, Body 16.6x16.6mm, Pitch 1.27mm, IPC Low Density)
pins: 1 ~{TXRDY1} (out), 2 D0 (in), 3 D1 (in), 4 D2 (in), 5 D3 (in), 6 D4 (in), 7 D5 (in), 8 D6 (in), 9 D7 (in), 10 A0 (in), 11 XIN (in), 12 GND (power), 13 XOUT (out), 14 A1 (in), 15 A2 (in), 16 CHSL (in), 17 INTR2 (out), 18 ~{CS} (in), 19 ~{MF2} (out), 20 ~{WR} (in), 21 MR (in), 22 GND (power), 23 ~{RTS2} (out), 24 ~{RD} (in), 25 SIN2 (in), 26 SOUT2 (out), 27 ~{DTR2} (out), 28 ~{CTS2} (in), 29 ~{DSR2} (in), 30 ~{DCD2} (in), 31 ~{RI2} (in), 32 ~{TXRDY2} (out), 33 VCC (power), 34 INTR1 (out), 35 ~{MF1} (out), 36 ~{RTS1} (out), 37 ~{DTR1} (out), 38 SOUT1 (out), 39 SIN1 (in), 40 ~{CTS1} (in), 41 ~{DSR1} (in), 42 ~{DCD1} (in), 43 ~{RI1} (in), 44 VCC (power)

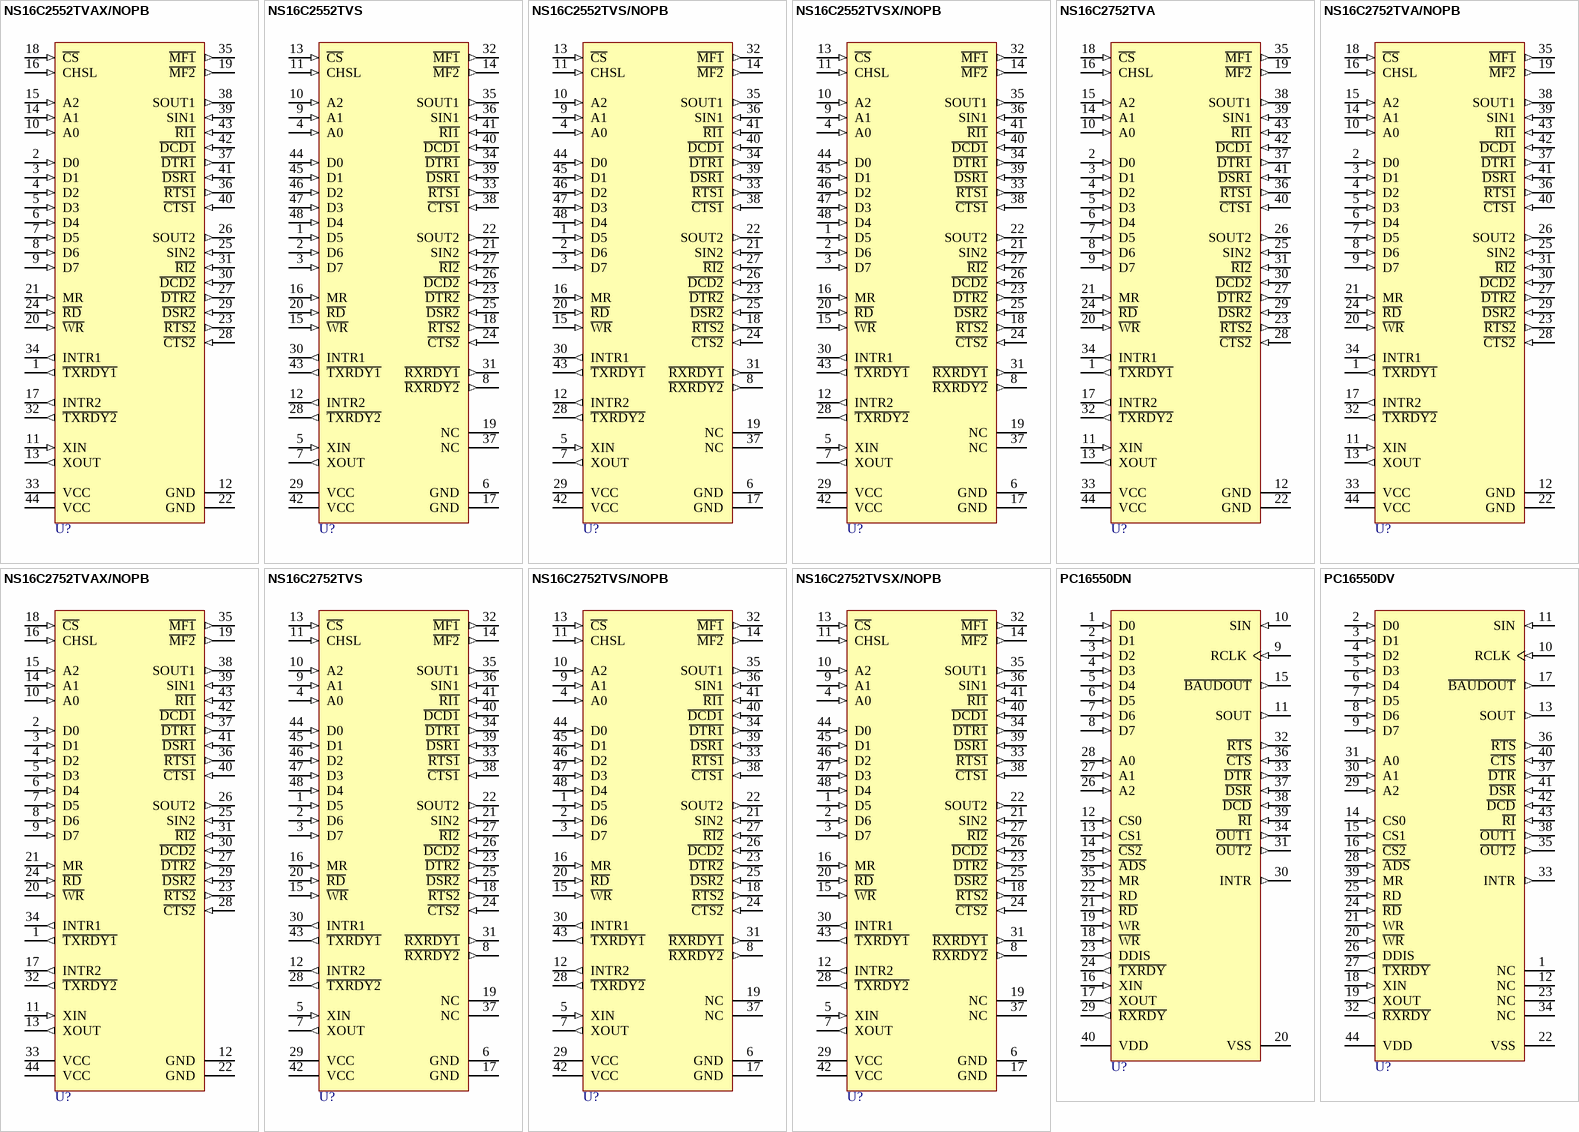
[diagram p100: symbols NS16C2552TVAX/NOPB to PC16550DV]

## NS16C2552TVAX/NOPB
designator U?
Dual UART with 16-byte FIFO and up to 5 Mbit/s Data Rate, 44-pin PLCC, Pb-Free; PartNumber: NS16C2552TVAX/NOPB; Manufacturer: National Semiconductor; PackageTopMarking: NSUZXYYTTE#*NS16C2552TVA*BBBBB; PowerWise: N; CompType: Interface IC; Published: 1-Mar-2010; DatasheetVersion: Jun-2009; PackageVersion: revK, Dec-1993; PackageReference: V44A; Publisher: Altium Limited; PackageDescription: Plastic Chip Carrier, Sq, .050in Pitch, 44 Lead; Supplier 1: Digi-Key; Supplier Part Number 1: NS16C2552TVAX-ND; RoHS: Y; PinCount: 44; Code_IPC: PLCC-44; ComponentLink1Description: NS16C2552 Datasheet; ComponentLink1URL: http://www.national.com/ds/NS/NS16C2552.pdf; ComponentLink2Description: NS16C2552 Web Page; ComponentLink2URL: http://www.national.com/pf/NS/NS16C2552.html; ComponentLink3Description: V44A Package Page; ComponentLink3URL: http://www.national.com/packaging/folders/v44a.html
footprint V44A_N (Leaded Chip Carrier, 44-Leads, Body 16.6x16.6mm, Pitch 1.27mm, IPC Medium Density)
footprint V44A_L (Leaded Chip Carrier, 44-Leads, Body 16.6x16.6mm, Pitch 1.27mm, IPC High Density)
footprint V44A_M (Leaded Chip Carrier, 44-Leads, Body 16.6x16.6mm, Pitch 1.27mm, IPC Low Density)
pins: 1 ~{TXRDY1} (out), 2 D0 (in), 3 D1 (in), 4 D2 (in), 5 D3 (in), 6 D4 (in), 7 D5 (in), 8 D6 (in), 9 D7 (in), 10 A0 (in), 11 XIN (in), 12 GND (power), 13 XOUT (out), 14 A1 (in), 15 A2 (in), 16 CHSL (in), 17 INTR2 (out), 18 ~{CS} (in), 19 ~{MF2} (out), 20 ~{WR} (in), 21 MR (in), 22 GND (power), 23 ~{RTS2} (out), 24 ~{RD} (in), 25 SIN2 (in), 26 SOUT2 (out), 27 ~{DTR2} (out), 28 ~{CTS2} (in), 29 ~{DSR2} (in), 30 ~{DCD2} (in), 31 ~{RI2} (in), 32 ~{TXRDY2} (out), 33 VCC (power), 34 INTR1 (out), 35 ~{MF1} (out), 36 ~{RTS1} (out), 37 ~{DTR1} (out), 38 SOUT1 (out), 39 SIN1 (in), 40 ~{CTS1} (in), 41 ~{DSR1} (in), 42 ~{DCD1} (in), 43 ~{RI1} (in), 44 VCC (power)

## NS16C2552TVS
designator U?
Dual UART with 16-byte/64-byte FIFO's and up to 5 Mbit/s Data Rate, 48-pin TQFP; PartNumber: NS16C2552TVS; Manufacturer: National Semiconductor; PackageTopMarking: NSUZXYTT*NS16C2*552TVS; PowerWise: N; CompType: Interface IC; Published: 4-Dec-2008; DatasheetVersion: Jun-2009; PackageVersion: revA, Apr-2000; PackageReference: VBC48A; Publisher: Altium Limited; PackageDescription: TQFP, Jedec Metric, 7 x 7 x 1mm, 48 Lead, 0.5mm Pitch; RoHS: N; PinCount: 48; Code_JEDEC: MS-026-ABC; ComponentLink1Description: NS16C2552 Datasheet; ComponentLink1URL: http://www.national.com/ds/NS/NS16C2552.pdf; ComponentLink2Description: NS16C2552 Web Page; ComponentLink2URL: http://www.national.com/pf/NS/NS16C2552.html; ComponentLink3Description: VBC48A Package Page; ComponentLink3URL: http://www.national.com/packaging/folders/vbc48a.html
footprint VBC48A_N (Thin QFP, 48-Leads, Body 7x7mm, Pitch 0.5mm, IPC Medium Density)
footprint VBC48A_L (Thin QFP, 48-Leads, Body 7x7mm, Pitch 0.5mm, IPC High Density)
footprint VBC48A_M (Thin QFP, 48-Leads, Body 7x7mm, Pitch 0.5mm, IPC Low Density)
pins: 1 D5 (in), 2 D6 (in), 3 D7 (in), 4 A0 (in), 5 XIN (in), 6 GND (power), 7 XOUT (out), 8 ~{RXRDY2} (out), 9 A1 (in), 10 A2 (in), 11 CHSL (in), 12 INTR2 (out), 13 ~{CS} (in), 14 ~{MF2} (out), 15 ~{WR} (in), 16 MR (in), 17 GND (power), 18 ~{RTS2} (out), 19 NC, 20 ~{RD} (in), 21 SIN2 (in), 22 SOUT2 (out), 23 ~{DTR2} (out), 24 ~{CTS2} (in), 25 ~{DSR2} (in), 26 ~{DCD2} (in), 27 ~{RI2} (in), 28 ~{TXRDY2} (out), 29 VCC (power), 30 INTR1 (out), 31 ~{RXRDY1} (out), 32 ~{MF1} (out), 33 ~{RTS1} (out), 34 ~{DTR1} (out), 35 SOUT1 (out), 36 SIN1 (in), 37 NC, 38 ~{CTS1} (in), 39 ~{DSR1} (in), 40 ~{DCD1} (in), 41 ~{RI1} (in), 42 VCC (power), 43 ~{TXRDY1} (out), 44 D0 (in), 45 D1 (in), 46 D2 (in), 47 D3 (in), 48 D4 (in)

## NS16C2552TVS/NOPB
designator U?
Dual UART with 16-byte FIFO and up to 5 Mbit/s Data Rate, 48-pin TQFP, Pb-Free; PartNumber: NS16C2552TVS/NOPB; Manufacturer: National Semiconductor; PackageTopMarking: NSUZXYTT*NS16C2*552TVS; PowerWise: N; CompType: Interface IC; Published: 1-Mar-2010; DatasheetVersion: Jun-2009; PackageVersion: revA, Apr-2000; PackageReference: VBC48A; Publisher: Altium Limited; PackageDescription: TQFP, Jedec Metric, 7 x 7 x 1mm, 48 Lead, 0.5mm Pitch; Supplier 1: Digi-Key; Supplier Part Number 1: NS16C2552TVS-ND; RoHS: Y; PinCount: 48; Code_JEDEC: MS-026-ABC; ComponentLink1Description: NS16C2552 Datasheet; ComponentLink1URL: http://www.national.com/ds/NS/NS16C2552.pdf; ComponentLink2Description: NS16C2552 Web Page; ComponentLink2URL: http://www.national.com/pf/NS/NS16C2552.html; ComponentLink3Description: VBC48A Package Page; ComponentLink3URL: http://www.national.com/packaging/folders/vbc48a.html
footprint VBC48A_N (Thin QFP, 48-Leads, Body 7x7mm, Pitch 0.5mm, IPC Medium Density)
footprint VBC48A_L (Thin QFP, 48-Leads, Body 7x7mm, Pitch 0.5mm, IPC High Density)
footprint VBC48A_M (Thin QFP, 48-Leads, Body 7x7mm, Pitch 0.5mm, IPC Low Density)
pins: 1 D5 (in), 2 D6 (in), 3 D7 (in), 4 A0 (in), 5 XIN (in), 6 GND (power), 7 XOUT (out), 8 ~{RXRDY2} (out), 9 A1 (in), 10 A2 (in), 11 CHSL (in), 12 INTR2 (out), 13 ~{CS} (in), 14 ~{MF2} (out), 15 ~{WR} (in), 16 MR (in), 17 GND (power), 18 ~{RTS2} (out), 19 NC, 20 ~{RD} (in), 21 SIN2 (in), 22 SOUT2 (out), 23 ~{DTR2} (out), 24 ~{CTS2} (in), 25 ~{DSR2} (in), 26 ~{DCD2} (in), 27 ~{RI2} (in), 28 ~{TXRDY2} (out), 29 VCC (power), 30 INTR1 (out), 31 ~{RXRDY1} (out), 32 ~{MF1} (out), 33 ~{RTS1} (out), 34 ~{DTR1} (out), 35 SOUT1 (out), 36 SIN1 (in), 37 NC, 38 ~{CTS1} (in), 39 ~{DSR1} (in), 40 ~{DCD1} (in), 41 ~{RI1} (in), 42 VCC (power), 43 ~{TXRDY1} (out), 44 D0 (in), 45 D1 (in), 46 D2 (in), 47 D3 (in), 48 D4 (in)

## NS16C2552TVSX/NOPB
designator U?
Dual UART with 16-byte FIFO and up to 5 Mbit/s Data Rate, 48-pin TQFP, Pb-Free; PartNumber: NS16C2552TVSX/NOPB; Manufacturer: National Semiconductor; PackageTopMarking: NSUZXYTT*NS16C2*552TVS; PowerWise: N; CompType: Interface IC; Published: 1-Mar-2010; DatasheetVersion: Jun-2009; PackageVersion: revA, Apr-2000; PackageReference: VBC48A; Publisher: Altium Limited; PackageDescription: TQFP, Jedec Metric, 7 x 7 x 1mm, 48 Lead, 0.5mm Pitch; Supplier 1: Digi-Key; Supplier Part Number 1: NS16C2552TVSX-ND; RoHS: Y; PinCount: 48; Code_JEDEC: MS-026-ABC; ComponentLink1Description: NS16C2552 Datasheet; ComponentLink1URL: http://www.national.com/ds/NS/NS16C2552.pdf; ComponentLink2Description: NS16C2552 Web Page; ComponentLink2URL: http://www.national.com/pf/NS/NS16C2552.html; ComponentLink3Description: VBC48A Package Page; ComponentLink3URL: http://www.national.com/packaging/folders/vbc48a.html
footprint VBC48A_N (Thin QFP, 48-Leads, Body 7x7mm, Pitch 0.5mm, IPC Medium Density)
footprint VBC48A_L (Thin QFP, 48-Leads, Body 7x7mm, Pitch 0.5mm, IPC High Density)
footprint VBC48A_M (Thin QFP, 48-Leads, Body 7x7mm, Pitch 0.5mm, IPC Low Density)
pins: 1 D5 (in), 2 D6 (in), 3 D7 (in), 4 A0 (in), 5 XIN (in), 6 GND (power), 7 XOUT (out), 8 ~{RXRDY2} (out), 9 A1 (in), 10 A2 (in), 11 CHSL (in), 12 INTR2 (out), 13 ~{CS} (in), 14 ~{MF2} (out), 15 ~{WR} (in), 16 MR (in), 17 GND (power), 18 ~{RTS2} (out), 19 NC, 20 ~{RD} (in), 21 SIN2 (in), 22 SOUT2 (out), 23 ~{DTR2} (out), 24 ~{CTS2} (in), 25 ~{DSR2} (in), 26 ~{DCD2} (in), 27 ~{RI2} (in), 28 ~{TXRDY2} (out), 29 VCC (power), 30 INTR1 (out), 31 ~{RXRDY1} (out), 32 ~{MF1} (out), 33 ~{RTS1} (out), 34 ~{DTR1} (out), 35 SOUT1 (out), 36 SIN1 (in), 37 NC, 38 ~{CTS1} (in), 39 ~{DSR1} (in), 40 ~{DCD1} (in), 41 ~{RI1} (in), 42 VCC (power), 43 ~{TXRDY1} (out), 44 D0 (in), 45 D1 (in), 46 D2 (in), 47 D3 (in), 48 D4 (in)

## NS16C2752TVA
designator U?
Dual UART with 16-byte/64-byte FIFO's and up to 5 Mbit/s Data Rate, 44-pin PLCC; PartNumber: NS16C2752TVA; Manufacturer: National Semiconductor; PackageTopMarking: NSUZXYYTTE#*NS16C2752TVA*BBBBB; PowerWise: N; CompType: Interface IC; Published: 4-Dec-2008; DatasheetVersion: Jun-2009; PackageVersion: revK, Dec-1993; PackageReference: V44A; Publisher: Altium Limited; PackageDescription: Plastic Chip Carrier, Sq, .050in Pitch, 44 Lead; RoHS: Y; PinCount: 44; Code_IPC: PLCC-44; ComponentLink1Description: NS16C2752 Datasheet; ComponentLink1URL: http://www.national.com/ds/NS/NS16C2552.pdf; ComponentLink2Description: NS16C2752 Web Page; ComponentLink2URL: http://www.national.com/pf/NS/NS16C2752.html; ComponentLink3Description: V44A Package Page; ComponentLink3URL: http://www.national.com/packaging/folders/v44a.html
footprint V44A_N (Leaded Chip Carrier, 44-Leads, Body 16.6x16.6mm, Pitch 1.27mm, IPC Medium Density)
footprint V44A_L (Leaded Chip Carrier, 44-Leads, Body 16.6x16.6mm, Pitch 1.27mm, IPC High Density)
footprint V44A_M (Leaded Chip Carrier, 44-Leads, Body 16.6x16.6mm, Pitch 1.27mm, IPC Low Density)
pins: 1 ~{TXRDY1} (out), 2 D0 (in), 3 D1 (in), 4 D2 (in), 5 D3 (in), 6 D4 (in), 7 D5 (in), 8 D6 (in), 9 D7 (in), 10 A0 (in), 11 XIN (in), 12 GND (power), 13 XOUT (out), 14 A1 (in), 15 A2 (in), 16 CHSL (in), 17 INTR2 (out), 18 ~{CS} (in), 19 ~{MF2} (out), 20 ~{WR} (in), 21 MR (in), 22 GND (power), 23 ~{RTS2} (out), 24 ~{RD} (in), 25 SIN2 (in), 26 SOUT2 (out), 27 ~{DTR2} (out), 28 ~{CTS2} (in), 29 ~{DSR2} (in), 30 ~{DCD2} (in), 31 ~{RI2} (in), 32 ~{TXRDY2} (out), 33 VCC (power), 34 INTR1 (out), 35 ~{MF1} (out), 36 ~{RTS1} (out), 37 ~{DTR1} (out), 38 SOUT1 (out), 39 SIN1 (in), 40 ~{CTS1} (in), 41 ~{DSR1} (in), 42 ~{DCD1} (in), 43 ~{RI1} (in), 44 VCC (power)

## NS16C2752TVA/NOPB
designator U?
Dual UART with 64-byte FIFO and up to 5 Mbit/s Data Rate, 44-pin PLCC, Pb-Free; PartNumber: NS16C2752TVA/NOPB; Manufacturer: National Semiconductor; PackageTopMarking: NSUZXYYTTE#*NS16C2752TVA*BBBBB; PowerWise: N; CompType: Interface IC; Published: 1-Mar-2010; DatasheetVersion: Jun-2009; PackageVersion: revK, Dec-1993; PackageReference: V44A; Publisher: Altium Limited; PackageDescription: Plastic Chip Carrier, Sq, .050in Pitch, 44 Lead; Supplier 1: Digi-Key; Supplier Part Number 1: NS16C2752TVA-ND; RoHS: Y; PinCount: 44; Code_IPC: PLCC-44; ComponentLink1Description: NS16C2752 Datasheet; ComponentLink1URL: http://www.national.com/ds/NS/NS16C2752.pdf; ComponentLink2Description: NS16C2752 Web Page; ComponentLink2URL: http://www.national.com/pf/NS/NS16C2752.html; ComponentLink3Description: V44A Package Page; ComponentLink3URL: http://www.national.com/packaging/folders/v44a.html
footprint V44A_N (Leaded Chip Carrier, 44-Leads, Body 16.6x16.6mm, Pitch 1.27mm, IPC Medium Density)
footprint V44A_L (Leaded Chip Carrier, 44-Leads, Body 16.6x16.6mm, Pitch 1.27mm, IPC High Density)
footprint V44A_M (Leaded Chip Carrier, 44-Leads, Body 16.6x16.6mm, Pitch 1.27mm, IPC Low Density)
pins: 1 ~{TXRDY1} (out), 2 D0 (in), 3 D1 (in), 4 D2 (in), 5 D3 (in), 6 D4 (in), 7 D5 (in), 8 D6 (in), 9 D7 (in), 10 A0 (in), 11 XIN (in), 12 GND (power), 13 XOUT (out), 14 A1 (in), 15 A2 (in), 16 CHSL (in), 17 INTR2 (out), 18 ~{CS} (in), 19 ~{MF2} (out), 20 ~{WR} (in), 21 MR (in), 22 GND (power), 23 ~{RTS2} (out), 24 ~{RD} (in), 25 SIN2 (in), 26 SOUT2 (out), 27 ~{DTR2} (out), 28 ~{CTS2} (in), 29 ~{DSR2} (in), 30 ~{DCD2} (in), 31 ~{RI2} (in), 32 ~{TXRDY2} (out), 33 VCC (power), 34 INTR1 (out), 35 ~{MF1} (out), 36 ~{RTS1} (out), 37 ~{DTR1} (out), 38 SOUT1 (out), 39 SIN1 (in), 40 ~{CTS1} (in), 41 ~{DSR1} (in), 42 ~{DCD1} (in), 43 ~{RI1} (in), 44 VCC (power)

## NS16C2752TVAX/NOPB
designator U?
Dual UART with 64-byte FIFO and up to 5 Mbit/s Data Rate, 44-pin PLCC, Pb-Free; PartNumber: NS16C2752TVAX/NOPB; Manufacturer: National Semiconductor; PackageTopMarking: NSUZXYYTTE#*NS16C2752TVA*BBBBB; PowerWise: N; CompType: Interface IC; Published: 1-Mar-2010; DatasheetVersion: Jun-2009; PackageVersion: revK, Dec-1993; PackageReference: V44A; Publisher: Altium Limited; PackageDescription: Plastic Chip Carrier, Sq, .050in Pitch, 44 Lead; RoHS: Y; PinCount: 44; Code_IPC: PLCC-44; ComponentLink1Description: NS16C2752 Datasheet; ComponentLink1URL: http://www.national.com/ds/NS/NS16C2752.pdf; ComponentLink2Description: NS16C2752 Web Page; ComponentLink2URL: http://www.national.com/pf/NS/NS16C2752.html; ComponentLink3Description: V44A Package Page; ComponentLink3URL: http://www.national.com/packaging/folders/v44a.html
footprint V44A_N (Leaded Chip Carrier, 44-Leads, Body 16.6x16.6mm, Pitch 1.27mm, IPC Medium Density)
footprint V44A_L (Leaded Chip Carrier, 44-Leads, Body 16.6x16.6mm, Pitch 1.27mm, IPC High Density)
footprint V44A_M (Leaded Chip Carrier, 44-Leads, Body 16.6x16.6mm, Pitch 1.27mm, IPC Low Density)
pins: 1 ~{TXRDY1} (out), 2 D0 (in), 3 D1 (in), 4 D2 (in), 5 D3 (in), 6 D4 (in), 7 D5 (in), 8 D6 (in), 9 D7 (in), 10 A0 (in), 11 XIN (in), 12 GND (power), 13 XOUT (out), 14 A1 (in), 15 A2 (in), 16 CHSL (in), 17 INTR2 (out), 18 ~{CS} (in), 19 ~{MF2} (out), 20 ~{WR} (in), 21 MR (in), 22 GND (power), 23 ~{RTS2} (out), 24 ~{RD} (in), 25 SIN2 (in), 26 SOUT2 (out), 27 ~{DTR2} (out), 28 ~{CTS2} (in), 29 ~{DSR2} (in), 30 ~{DCD2} (in), 31 ~{RI2} (in), 32 ~{TXRDY2} (out), 33 VCC (power), 34 INTR1 (out), 35 ~{MF1} (out), 36 ~{RTS1} (out), 37 ~{DTR1} (out), 38 SOUT1 (out), 39 SIN1 (in), 40 ~{CTS1} (in), 41 ~{DSR1} (in), 42 ~{DCD1} (in), 43 ~{RI1} (in), 44 VCC (power)

## NS16C2752TVS
designator U?
Dual UART with 16-byte/64-byte FIFO's and up to 5 Mbit/s Data Rate, 48-pin TQFP; PartNumber: NS16C2752TVS; Manufacturer: National Semiconductor; PackageTopMarking: NSUZXYTT*NS16C2*752TVS; PowerWise: N; CompType: Interface IC; Published: 4-Dec-2008; DatasheetVersion: Jun-2009; PackageVersion: revA, Apr-2000; PackageReference: VBC48A; Publisher: Altium Limited; PackageDescription: TQFP, Jedec Metric, 7 x 7 x 1mm, 48 Lead, 0.5mm Pitch; RoHS: N; PinCount: 48; Code_JEDEC: MS-026-ABC; ComponentLink1Description: NS16C2752 Datasheet; ComponentLink1URL: http://www.national.com/ds/NS/NS16C2752.pdf; ComponentLink2Description: NS16C2752 Web Page; ComponentLink2URL: http://www.national.com/pf/NS/NS16C2752.html; ComponentLink3Description: VBC48A Package Page; ComponentLink3URL: http://www.national.com/packaging/folders/vbc48a.html
footprint VBC48A_N (Thin QFP, 48-Leads, Body 7x7mm, Pitch 0.5mm, IPC Medium Density)
footprint VBC48A_L (Thin QFP, 48-Leads, Body 7x7mm, Pitch 0.5mm, IPC High Density)
footprint VBC48A_M (Thin QFP, 48-Leads, Body 7x7mm, Pitch 0.5mm, IPC Low Density)
pins: 1 D5 (in), 2 D6 (in), 3 D7 (in), 4 A0 (in), 5 XIN (in), 6 GND (power), 7 XOUT (out), 8 ~{RXRDY2} (out), 9 A1 (in), 10 A2 (in), 11 CHSL (in), 12 INTR2 (out), 13 ~{CS} (in), 14 ~{MF2} (out), 15 ~{WR} (in), 16 MR (in), 17 GND (power), 18 ~{RTS2} (out), 19 NC, 20 ~{RD} (in), 21 SIN2 (in), 22 SOUT2 (out), 23 ~{DTR2} (out), 24 ~{CTS2} (in), 25 ~{DSR2} (in), 26 ~{DCD2} (in), 27 ~{RI2} (in), 28 ~{TXRDY2} (out), 29 VCC (power), 30 INTR1 (out), 31 ~{RXRDY1} (out), 32 ~{MF1} (out), 33 ~{RTS1} (out), 34 ~{DTR1} (out), 35 SOUT1 (out), 36 SIN1 (in), 37 NC, 38 ~{CTS1} (in), 39 ~{DSR1} (in), 40 ~{DCD1} (in), 41 ~{RI1} (in), 42 VCC (power), 43 ~{TXRDY1} (out), 44 D0 (in), 45 D1 (in), 46 D2 (in), 47 D3 (in), 48 D4 (in)

## NS16C2752TVS/NOPB
designator U?
Dual UART with 64-byte FIFO and up to 5 Mbit/s Data Rate, 48-pin TQFP, Pb-Free; PartNumber: NS16C2752TVS/NOPB; Manufacturer: National Semiconductor; PackageTopMarking: NSUZXYTT*NS16C2*752TVS; PowerWise: N; CompType: Interface IC; Published: 1-Mar-2010; DatasheetVersion: Jun-2009; PackageVersion: revA, Apr-2000; PackageReference: VBC48A; Publisher: Altium Limited; PackageDescription: TQFP, Jedec Metric, 7 x 7 x 1mm, 48 Lead, 0.5mm Pitch; Supplier 1: Digi-Key; Supplier Part Number 1: NS16C2752TVS-ND; RoHS: Y; PinCount: 48; Code_JEDEC: MS-026-ABC; ComponentLink1Description: NS16C2752 Datasheet; ComponentLink1URL: http://www.national.com/ds/NS/NS16C2752.pdf; ComponentLink2Description: NS16C2752 Web Page; ComponentLink2URL: http://www.national.com/pf/NS/NS16C2752.html; ComponentLink3Description: VBC48A Package Page; ComponentLink3URL: http://www.national.com/packaging/folders/vbc48a.html
footprint VBC48A_N (Thin QFP, 48-Leads, Body 7x7mm, Pitch 0.5mm, IPC Medium Density)
footprint VBC48A_L (Thin QFP, 48-Leads, Body 7x7mm, Pitch 0.5mm, IPC High Density)
footprint VBC48A_M (Thin QFP, 48-Leads, Body 7x7mm, Pitch 0.5mm, IPC Low Density)
pins: 1 D5 (in), 2 D6 (in), 3 D7 (in), 4 A0 (in), 5 XIN (in), 6 GND (power), 7 XOUT (out), 8 ~{RXRDY2} (out), 9 A1 (in), 10 A2 (in), 11 CHSL (in), 12 INTR2 (out), 13 ~{CS} (in), 14 ~{MF2} (out), 15 ~{WR} (in), 16 MR (in), 17 GND (power), 18 ~{RTS2} (out), 19 NC, 20 ~{RD} (in), 21 SIN2 (in), 22 SOUT2 (out), 23 ~{DTR2} (out), 24 ~{CTS2} (in), 25 ~{DSR2} (in), 26 ~{DCD2} (in), 27 ~{RI2} (in), 28 ~{TXRDY2} (out), 29 VCC (power), 30 INTR1 (out), 31 ~{RXRDY1} (out), 32 ~{MF1} (out), 33 ~{RTS1} (out), 34 ~{DTR1} (out), 35 SOUT1 (out), 36 SIN1 (in), 37 NC, 38 ~{CTS1} (in), 39 ~{DSR1} (in), 40 ~{DCD1} (in), 41 ~{RI1} (in), 42 VCC (power), 43 ~{TXRDY1} (out), 44 D0 (in), 45 D1 (in), 46 D2 (in), 47 D3 (in), 48 D4 (in)

## NS16C2752TVSX/NOPB
designator U?
Dual UART with 64-byte FIFO and up to 5 Mbit/s Data Rate, 48-pin TQFP, Pb-Free; PartNumber: NS16C2752TVSX/NOPB; Manufacturer: National Semiconductor; PackageTopMarking: NSUZXYTT*NS16C2*752TVS; PowerWise: N; CompType: Interface IC; Published: 1-Mar-2010; DatasheetVersion: Jun-2009; PackageVersion: revA, Apr-2000; PackageReference: VBC48A; Publisher: Altium Limited; PackageDescription: TQFP, Jedec Metric, 7 x 7 x 1mm, 48 Lead, 0.5mm Pitch; RoHS: Y; PinCount: 48; Code_JEDEC: MS-026-ABC; ComponentLink1Description: NS16C2752 Datasheet; ComponentLink1URL: http://www.national.com/ds/NS/NS16C2752.pdf; ComponentLink2Description: NS16C2752 Web Page; ComponentLink2URL: http://www.national.com/pf/NS/NS16C2752.html; ComponentLink3Description: VBC48A Package Page; ComponentLink3URL: http://www.national.com/packaging/folders/vbc48a.html
footprint VBC48A_N (Thin QFP, 48-Leads, Body 7x7mm, Pitch 0.5mm, IPC Medium Density)
footprint VBC48A_L (Thin QFP, 48-Leads, Body 7x7mm, Pitch 0.5mm, IPC High Density)
footprint VBC48A_M (Thin QFP, 48-Leads, Body 7x7mm, Pitch 0.5mm, IPC Low Density)
pins: 1 D5 (in), 2 D6 (in), 3 D7 (in), 4 A0 (in), 5 XIN (in), 6 GND (power), 7 XOUT (out), 8 ~{RXRDY2} (out), 9 A1 (in), 10 A2 (in), 11 CHSL (in), 12 INTR2 (out), 13 ~{CS} (in), 14 ~{MF2} (out), 15 ~{WR} (in), 16 MR (in), 17 GND (power), 18 ~{RTS2} (out), 19 NC, 20 ~{RD} (in), 21 SIN2 (in), 22 SOUT2 (out), 23 ~{DTR2} (out), 24 ~{CTS2} (in), 25 ~{DSR2} (in), 26 ~{DCD2} (in), 27 ~{RI2} (in), 28 ~{TXRDY2} (out), 29 VCC (power), 30 INTR1 (out), 31 ~{RXRDY1} (out), 32 ~{MF1} (out), 33 ~{RTS1} (out), 34 ~{DTR1} (out), 35 SOUT1 (out), 36 SIN1 (in), 37 NC, 38 ~{CTS1} (in), 39 ~{DSR1} (in), 40 ~{DCD1} (in), 41 ~{RI1} (in), 42 VCC (power), 43 ~{TXRDY1} (out), 44 D0 (in), 45 D1 (in), 46 D2 (in), 47 D3 (in), 48 D4 (in)

## PC16550DN
designator U?
Universal Asynchronous Receiver/Transmitter with FIFO's, 40-pin MDIP; PartNumber: PC16550DN; Manufacturer: National Semiconductor; PackageTopMarking: NSUZXYYTTE#*PC16550DN*PATENTED; PowerWise: N; CompType: Interface IC; Published: 4-Dec-2008; DatasheetVersion: Jun-1995; PackageVersion: revE, Nov-1983; PackageReference: N40A; Publisher: Altium Limited; PackageDescription: 40 Lead Molded Dip (N); Supplier 1: Farnell; Supplier Part Number 1: 9490507; RoHS: N; PinCount: 40; ComponentLink1Description: PC16550D Datasheet; ComponentLink1URL: http://www.national.com/ds/PC/PC16550D.pdf; ComponentLink2Description: PC16550D Web Page; ComponentLink2URL: http://www.national.com/pf/PC/PC16550D.html; ComponentLink3Description: N40A Package Page; ComponentLink3URL: http://www.national.com/packaging/folders/n40a.html
footprint N40A (DIP, 40-Leads, Row Spacing 15.24mm, Pitch 2.54mm, Body 52.24x13.97mm)
pins: 1 D0 (in), 2 D1 (in), 3 D2 (in), 4 D3 (in), 5 D4 (in), 6 D5 (in), 7 D6 (in), 8 D7 (in), 9 RCLK (in), 10 SIN (in), 11 SOUT (out), 12 CS0 (in), 13 CS1 (in), 14 ~{CS2} (in), 15 ~{BAUDOUT} (out), 16 XIN (in), 17 XOUT (out), 18 ~{WR} (in), 19 WR (in), 20 VSS (power), 21 ~{RD} (in), 22 RD (in), 23 DDIS (out), 24 ~{TXRDY} (out), 25 ~{ADS} (in), 26 A2 (in), 27 A1 (in), 28 A0 (in), 29 ~{RXRDY} (out), 30 INTR (out), 31 ~{OUT2} (out), 32 ~{RTS} (out), 33 ~{DTR} (out), 34 ~{OUT1} (out), 35 MR (in), 36 ~{CTS} (in), 37 ~{DSR} (in), 38 ~{DCD} (in), 39 ~{RI} (in), 40 VDD (power)